# Altium footprint library SCR25XV-070-1R1A022JV.PcbLib: 1 footprints
Each footprint in its own frame and in the unit in brackets; x right, y up, seen from the top. Pads: shape width x height; smd on the part's side, far side on the other; paste and mask are expansions set on the pad; w line width, h text height; cw(c..) or ccw(c..) is an arc to the next point about the centre after c.
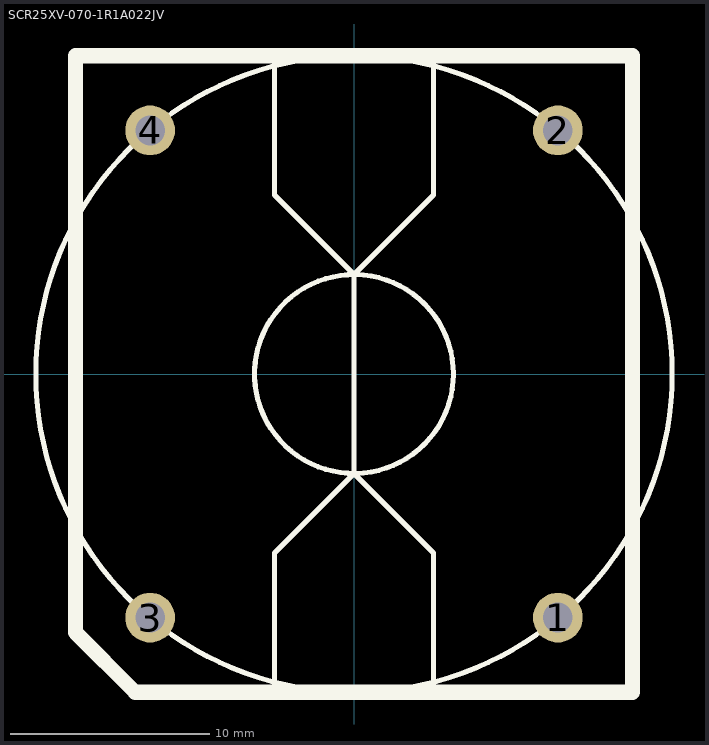
[diagram p0: the footprint, top view; thin cyan lines are the x and y axes]

## SCR25XV-070-1R1A022JV [mm]
pads (4):
  round 2.5 hole 1.5: 1(10.25,-12.25) 2(10.25,12.25) 3(-10.25,-12.25) 4(-10.25,12.25)
Top Overlay:
  circle w0.254: c0,0 r5
  circle w0.254: c0,0 r16
  lines w0.254: -4,-16 -4,-9 0,-5 ; -4,16 -4,9 0,5 ; 4,-16 4,-9 0,-5 ; 4,16 4,9 0,5 ; 0,-5 0,5
  lines w0.762: -14,-13 -11,-16 ; -14,-13 -11,-16 ; -14,-13 -14,16 14,16 14,-16 -11,-16